# Altium integrated library ElectrolyteCapacitor1000uF16VSMD.IntLib: 1 symbol
Pins are listed as number, name and electrical type; pins without a type are passive.

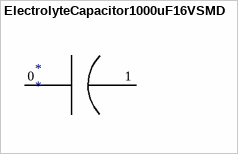
[diagram p0: symbol ElectrolyteCapacitor1000uF16VSMD]

## ElectrolyteCapacitor1000uF16VSMD
designator *
footprint ElectrolyteCapacitor1000uF16VSMD
pins: 0, 1